# EAGLE library part 8PINCONN (library SmartTreeCan)
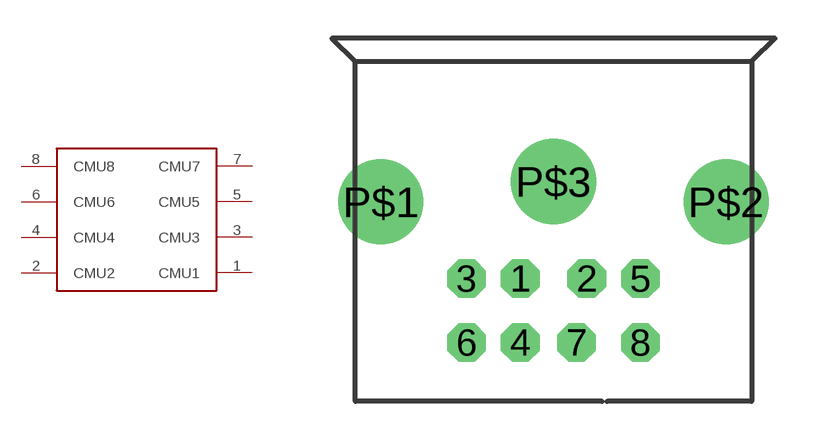
[diagram p2: symbol with the pads of 8PINCONN; footprint 8PINCONN]

Designator prefix -

## 8PINCONN  [8PINCONN]
1  CMU1
2  CMU2
3  CMU3
4  CMU4
5  CMU5
6  CMU6
7  CMU7
8  CMU8

## Footprint 8PINCONN (pad centres in mm)
CONNECTOR series 057 contact pc board low profile headers straight
drill 1 octagon: 1 -1.3,-8.5; 2 1.3,-8.5; 3 -3.4,-8.5; 4 -1.3,-11; 5 3.4,-8.5; 6 -3.4,-11; 7 0.9,-11; 8 3.4,-11
drill 2.31: P$1 -6.75,-5.5; P$2 6.75,-5.5; P$3 0,-4.7